# Altium footprint library RK1631110TWA.PcbLib: 1 footprints
Each footprint in its own frame and in the unit in brackets; x right, y up, seen from the top. Pads: shape width x height; smd on the part's side, far side on the other; paste and mask are expansions set on the pad; w line width, h text height; cw(c..) or ccw(c..) is an arc to the next point about the centre after c.
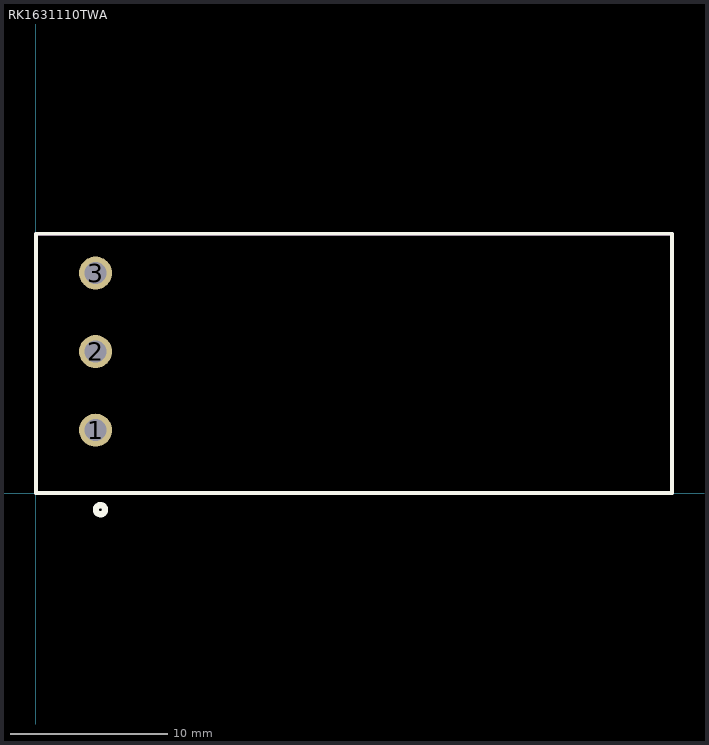
[diagram p0: the footprint, top view; thin cyan lines are the x and y axes]

## RK1631110TWA [mm]
pads (3):
  round 2.1 hole 1.4: 1(3.8,4) 2(3.8,9) 3(3.8,14)
L26-Silk Screen Top (Multiple PADS layers...):
  circle w0.4: c4.116,-1.062 r0.29
  lines w0.254: 0,0 0,16.5 40.5,16.5 40.5,0 0,0
L15 (Multiple PADS layers...):
  lines w0.254: 0,0 40.5,0 40.5,16.5 0,16.5 0,0